# Altium footprint library Kodba_Mario.PcbLib: 3 footprints
Each footprint in its own frame and in the unit in brackets; x right, y up, seen from the top. Pads: shape width x height; smd on the part's side, far side on the other; paste and mask are expansions set on the pad; w line width, h text height; cw(c..) or ccw(c..) is an arc to the next point about the centre after c.
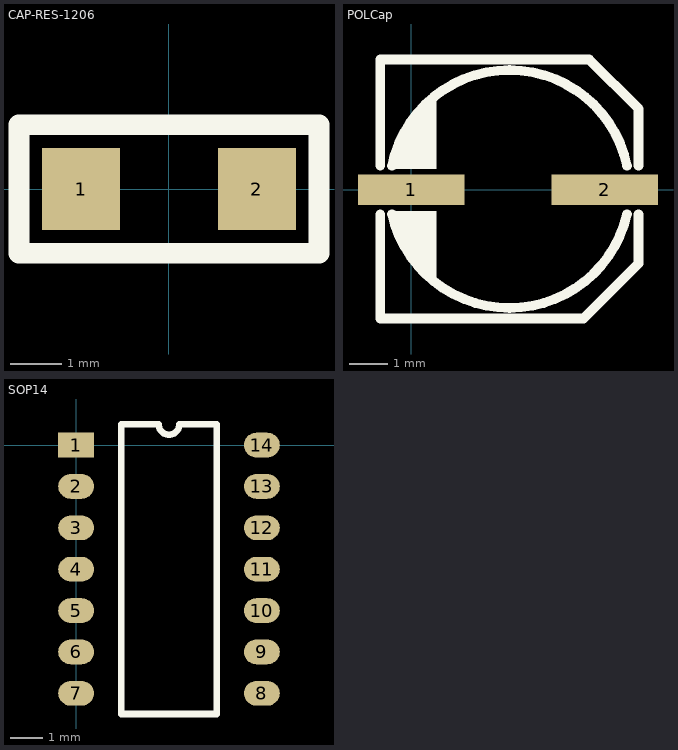
[diagram p0: the footprints below, top view; thin cyan lines are the x and y axes]

## CAP-RES-1206 [mm]
pads (2):
  rect 1.52x1.6 smd: 1(-1.71,0) 2(1.71,0)
Top Overlay:
  lines w0.4: -2.92,-1.25 2.92,-1.25 2.92,1.25 -2.92,1.25 -2.92,0 -2.92,-1.25

## POLCap [mm]
pads (2):
  rect 2.8x0.8 smd: 1(0,0) 2(5.08,0)
Top Overlay:
  rectangle: -0.508,-0.762 0.66,-0.559
  region: 0.66,-0.635 0.66,-2.337 0.533,-2.464 -0.102,-1.829 -0.102,-1.397 -0.508,-0.991 -0.508,-0.635
  region: -0.508,1.016 -0.102,1.422 -0.102,1.753 -0.051,1.753 0.533,2.337 0.66,2.337 0.66,0.559 -0.432,0.559 -0.508,0.635
  lines w0.254: -0.813,-0.635 -0.813,-3.378 4.445,-3.378 4.521,-3.378 5.969,-1.93 5.969,-0.635 ; -0.813,0.635 -0.813,2.21 -0.813,3.429 4.42,3.429 4.674,3.429 5.969,2.134 5.969,0.635 ; -0.508,-0.635 ccw(c2.578,0.066) 5.664,-0.635 ; -0.508,0.635 cw(c2.578,-0.001) 5.664,0.635

## SOP14 [mm]
pads (14):
  rect 1.1x0.76 smd: 1(0,0)
  oval 1.1x0.76 smd: 2(0,-1.27) 3(0,-2.54) 4(0,-3.81) 5(0,-5.08) 6(0,-6.35) 7(0,-7.62) 8(5.7,-7.62) 9(5.7,-6.35) 10(5.7,-5.08) 11(5.7,-3.81) 12(5.7,-2.54) 13(5.7,-1.27) 14(5.7,0)
Top Overlay:
  lines w0.2: 1.385,-8.255 1.385,0.635 2.532,0.635 ccw(c2.85,0.635) 3.167,0.635 4.315,0.635 4.315,-8.255 1.385,-8.255